# Altium integrated library TDR_int_lib.IntLib: 14 symbols
Pins are listed as number, name and electrical type; pins without a type are passive.

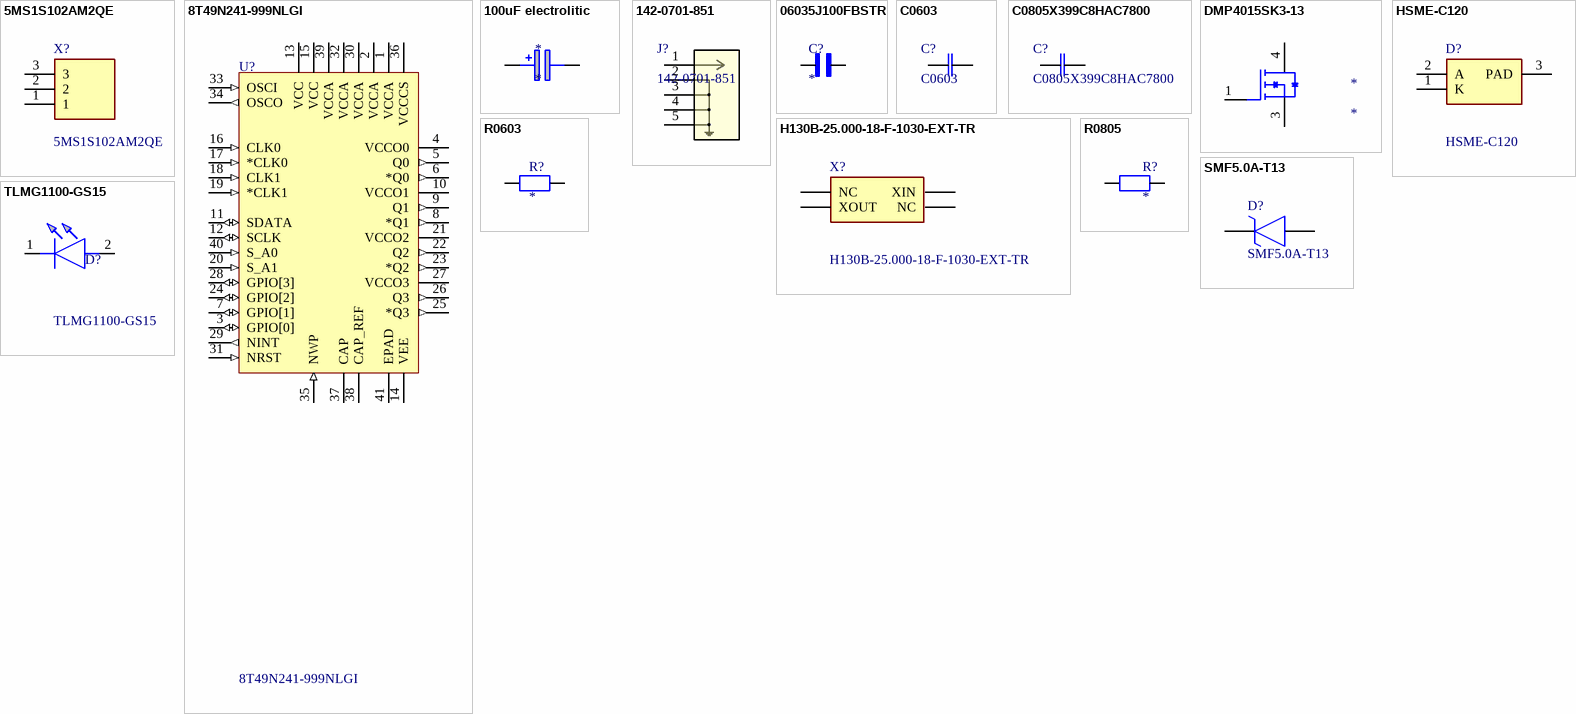
[diagram p0: symbols 5MS1S102AM2QE to TLMG1100-GS15]

## 5MS1S102AM2QE
designator X?
Switch: Slide; Positions: 2; SPDT; 2A/250VAC; 5A/28VDC; ON-ON; Manufacturer_Name: LIGHT COUNTRY; Geometry.Height: 12.93mm; TME Electronic Components Part Number: *; TME Electronic Components Price/Stock: *; Manufacturer_Part_Number: 5MS1S102AM2QE; Datasheet Link: https://www.tme.eu/Document/6c0299ce3235dd46f456febe8a77357f/slide_switch_5M.PDF
footprint 5MS1S102AM2QE
pins: 1, 2, 3

## 8T49N241-999NLGI
designator U?
Tin Active e3 CLOCK GENERATOR OTHER (Type) IC 18Weeks -40C 6mm 1GHz; Number of Circuits: 1; Input: Crystal; Interface: I2C; Phase Jitter: 350fs; Max Input Voltage: 3.465V; Pitch: 500µm; Output Type: HCSL, LVCMOS, LVDS, LVPECL; Min Input Voltage: 1.71V; ComponentLink2URL: https://octopart.com/cad-content/api/get-model-datasheet/15189/106937583; RoHS: Compliant; Lead Free: Lead Free; Max Operating Temperature: 85°C; Lifecycle Status: Production; ComponentLink1URL: http://www.renesas.com; Max Frequency: 1GHz; Contact Plating: Tin; Export Control Classification Number (ECCN) Code: NLR; ComponentLink2Description: Datasheet URL; HelpURL: https://octopart.com/cad-content/api/get-model-datasheet/15189/106937583; Length: 6mm; MSL: 3; Part Family: 8T49N241; Height: 900µm; Max Output Frequency: 1GHz; ComponentLink1Description: Manufacturer's Website; ComponentLink3URL: https://www.renesas.com/en/document/psc/package-outline-drawing-package-code-nlg40p2-40-vfqfp-n-60-x-60-x-090-mm-body-05mm-pitch; Width: 6mm; ComponentLink3Description: Manufacturer's Package Drawing; Number of Pins: 40; Manufacturer Lifecycle Status: ACTIVE; Min Operating Temperature: -40°C; Harmonized Tariff Schedule (HTS) Code: 8540000000; Thickness: 900µm; Mount: Surface Mount; Package Quantity: 0
footprint NLG40P2_MFG (Recommended Land Pattern)
footprint QFN50P600X600X100-41_NLG40P2_N (QFN, 40-Leads, Body 6.00x6.00mm, Pitch 0.50mm, Thermal Pad 4.65x4.65mm, IPC Medium Density)
footprint QFN50P600X600X100-41_NLG40P2_L (QFN, 40-Leads, Body 6.00x6.00mm, Pitch 0.50mm, Thermal Pad 4.65x4.65mm, IPC High Density)
footprint QFN50P600X600X100-41_NLG40P2_M (QFN, 40-Leads, Body 6.00x6.00mm, Pitch 0.50mm, Thermal Pad 4.65x4.65mm, IPC Low Density)
pins: 1 VCCA (power), 2 VCCA (power), 3 GPIO[0] (io), 4 VCCO0 (power), 5 Q0 (out), 6 *Q0 (out), 7 GPIO[1] (io), 8 *Q1 (out), 9 Q1 (out), 10 VCCO1 (power), 11 SDATA (io), 12 SCLK (io), 13 VCC (power), 14 VEE (power), 15 VCC (power), 16 CLK0 (in), 17 *CLK0 (in), 18 CLK1 (in), 19 *CLK1 (in), 20 S_A1 (in), 21 VCCO2 (power), 22 Q2 (out), 23 *Q2 (out), 24 GPIO[2] (io), 25 *Q3 (out), 26 Q3 (out), 27 VCCO3 (power), 28 GPIO[3] (io), 29 NINT (out), 30 VCCA (power), 31 NRST (in), 32 VCCA (power), 33 OSCI (in), 34 OSCO (out), 35 NWP (in), 36 VCCCS (power), 37 CAP, 38 CAP_REF, 39 VCCA (power), 40 S_A0 (in), 41 EPAD (power)

## 100uF electrolitic
designator *
footprint CAPPRD200W55D500H1250 - duplicate
pins: 1 +, 2 -

## 142-0701-851
designator J?
Description; Manufacturer_Name: Cinch Connectivity Solutions; Copyright: Copyright (C) 2025 Ultra Librarian. All rights reserved.; Manufacturer_Part_Number: 142-0701-851; RefDes: RefDes; Type: Type
footprint CONN_142-0701-851_CIN
pins: 1, 2, 3, 4, 5

## 06035J100FBSTR
designator C?
10 pF Thin Film Capacitor 50 V 0603 (1608 Metric); MF: AVX; MP: 06035J100FBSTR; SnapEDA_Link: https://www.snapeda.com/parts/06035J100FBSTR/AVX/view-part/?ref=snap; Package: 0603-2 AVX; Value: *; Check_prices: https://www.snapeda.com/parts/06035J100FBSTR/AVX/view-part/?ref=eda
footprint CAPC1608X90
pins: 1, 2

## C0603
designator C?
CAP SMD 0805; Manufacturer_Name: Kemet; Manufacturer_Part_Number: C0805X399C8HAC7800; Copyright: Copyright (C) 2025 Ultra Librarian. All rights reserved.
footprint CAPC0603 (Chip Capacitor, 2-Leads, Body 1,60x0,80mm, IPC Medium Density)
pins: 1, 2

## C0805X399C8HAC7800
designator C?
CAP SMD 0805; Manufacturer_Name: Kemet; Copyright: Copyright (C) 2025 Ultra Librarian. All rights reserved.; Manufacturer_Part_Number: C0805X399C8HAC7800
footprint CAP_C0805X-HAC-DR_KEM
footprint CAPC0402 (Chip Capacitor, 2-Leads, Body 1,00x0,50mm, IPC Medium Density)
pins: 1, 2

## DMP4015SK3-13
designator *
footprint DMP4015SK3-13 (D-PAK, 3-Pads, Body 6,20x6,41mm (max), IPC Medium Density)
pins: 1 0, 3 1, 4 2

## H130B-25.000-18-F-1030-EXT-TR
designator X?
MHz Crystal, 25 MHz, 5 x 3.2 mm, +/-10 ppm tolerance, +/-30 ppm stability, 18 pF, -40~85C, SMD; Manufacturer_Name: RALTRON; Geometry.Height: 0.9mm; Farnell Part Number: *; Farnell Price/Stock: *; Manufacturer_Part_Number: H130B-25.000-18-F-1030-EXT-TR; Datasheet Link: https://raltron.com/webproducts/specs/CRYSTAL/H130B-25.000-18-F-1030-EXT-TR.pdf
footprint H130B2500018F1030EXTTR
pins: 1 XIN, 2 NC, 3 XOUT, 4 NC

## HSME-C120
designator D?
Broadcom HSME-C120, 572 nm Green LED, 1606 SMD package; Manufacturer_Name: Avago Technologies; Geometry.Height: 0.6mm; Mouser Part Number: 630-HSME-C120; Mouser Price/Stock: https://www.mouser.co.uk/ProductDetail/Broadcom-Avago/HSME-C120?qs=YDL0qNrpDT6XuJX8HW6Zog%3D%3D; Manufacturer_Part_Number: HSME-C120; Datasheet Link: https://docs.broadcom.com/docs/AV02-0976EN
footprint HSMEC120
pins: 1 K, 2 A, 3 PAD

## R0603
designator R?
RES SMD 0603; MP: RT0805FRE075K36L; Package: None; Price: None; Value: *; Availability: Unavailable
footprint RESC0603 (Chip Resistor, 2-Leads, Body 1,60x0,80mm, IPC Medium Density)
pins: 1, 2

## R0805
designator R?
RES SMD 0805; MP: RT0805FRE075K36L; Package: None; Price: None; Value: *; Availability: Unavailable
footprint RES0805 (Chip Resistor, 2-Leads, Body 2,00x1,23mm, IPC Medium Density)
pins: 1, 2

## SMF5.0A-T13
designator D?
TVS Diode (Uni-directional); Manufacturer_Name: LITTELFUSE; Datasheet Link: https://www.littelfuse.com/~/media/electronics/datasheets/tvs_diodes/littelfuse_tvs_diode_smf_datasheet.pdf.pdf; Height: 1.1mm; Manufacturer_Part_Number: SMF5.0A-T13; Mouser Part Number: 576-SMF5.0A-T13; Mouser Price/Stock: https://www.mouser.co.uk/ProductDetail/Littelfuse/SMF5.0A-T13?qs=aGgfWYEhH7lEohru0mAWAg%3D%3D; Arrow Part Number: SMF5.0A-T13; Arrow Price/Stock: https://www.arrow.com/en/products/smf5.0a-t13/littelfuse?utm_currency=USD&region=nac
footprint SODFL3618X110N
pins: 1 K, 2 A

## TLMG1100-GS15
designator D?
Standard LEDs - SMD CHIPLED(SMD 0603-LED) GREEN U.BRIGHT-E4; Manufacturer_Name: Vishay; Geometry.Height: 0.65mm; Mouser Part Number: 78-TLMG1100-GS15; Mouser Price/Stock: https://www.mouser.co.uk/ProductDetail/Vishay-Semiconductors/TLMG1100-GS15?qs=vvQtp7zwQdObPNLeC1kn7g%3D%3D; Manufacturer_Part_Number: TLMG1100-GS15; Datasheet Link: https://www.vishay.com/docs/83173/tlmx1100.pdf
footprint TLMG1100GS15
pins: 1 K, 2 A